# EAGLE library part 693022010811 (library WR-CRD)
WR-CRD SIM Card Connectors Characteristics Available in three form factors: Mini, Micro and Nano Available in three entry types: Push-Pull, Hinge and Push-Push Compatible with SIM and MegaSIM standards Applications Mobile Broadband Communication Internet of Things Fleet Management Security and Authentication Machine-to-Machine Communication <https://www.we-online.com/components/media/o732987v209%20693021020811_Multi-parts.jpg> Details see: www.we-online.com/components/products/WR_CRD_CARD_CONNECTOR_SIM <www.we-online.com/catalog/WR_CRD_CARD_CONNECTOR_SIM/?utm_source=eagle_model&utm_medium=description_link&utm_campaign=eisos_eagle> Updated by Ella 2025-03-12 2025 (C) Würth Elektronik
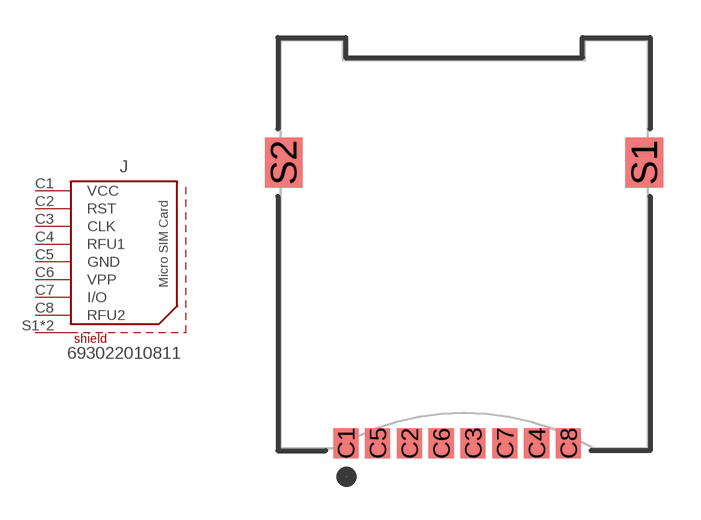
[diagram p13: symbol with the pads of 693022010811; footprint 693022010811]

Designator prefix J

## 693022010811 (DATASHEET-URL: https://www.we-online.com/redexpert/spec/693022010811?ae; DURABILITY: 2500 Mating cycles; GERDER: Socket; MOUNT: SMT; PART-NUMBER: 693022010811; PINS: 8pcs; SIZE: Micro SIM; TYPE: Hinge; VALUE: 693022010811)  [693022010811]
C1  VCC  pas
C2  RST  pas
C3  CLK  pas
C4  RFU1  pas
C5  GND  pas
C6  VPP  pas
C7  I/O  pas
C8  RFU2  pas
S1  SHIELD  pas
S2  SHIELD  pas

## Footprint 693022010811 (pad centres in mm)
WR-CRD Micro SIM Card Connector Hinge Type
smd 1 x 1.2: C1 -4.72,-7.95; C2 -2.18,-7.95; C3 0.36,-7.95; C4 2.9,-7.95; C5 -3.45,-7.95; C6 -0.91,-7.95; C7 1.63,-7.95; C8 4.17,-7.95
smd 1.5 x 2: S1 7.2,3.25; S2 -7.2,3.25